# EAGLE library part AD630 (library _RoweTel)
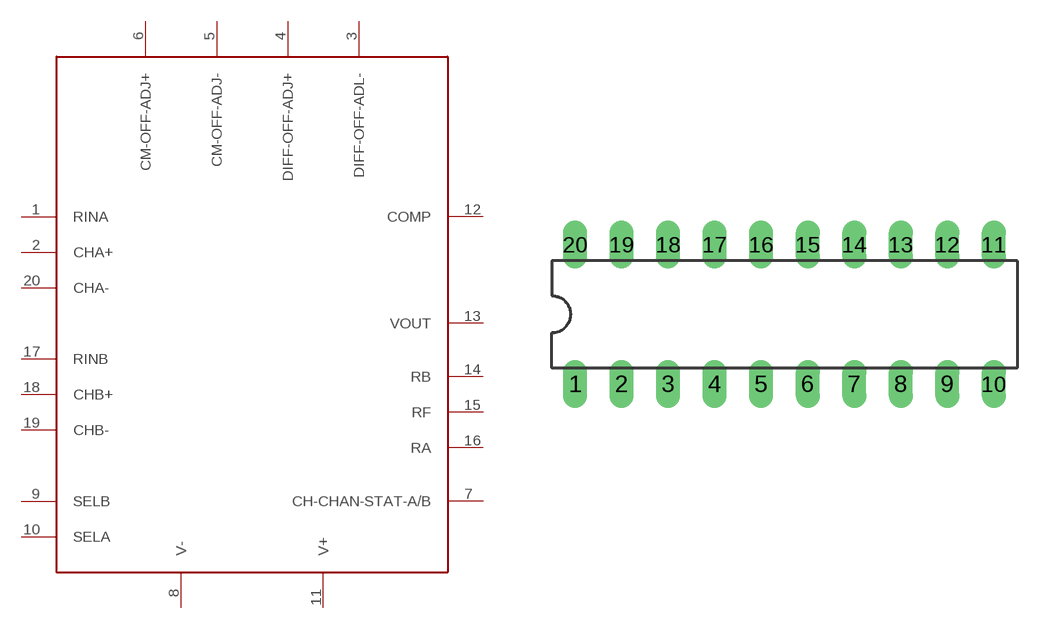
[diagram p4: symbol with the pads of DIL20; footprint DIL20]

Designator prefix U

## AD630  [DIL20]
1  RINA
2  CHA+
3  DIFF-OFF-ADL-
4  DIFF-OFF-ADJ+
5  CM-OFF-ADJ-
6  CM-OFF-ADJ+
7  CH-CHAN-STAT-A/B
8  V-
9  SELB
10  SELA
11  V+
12  COMP
13  VOUT
14  RB
15  RF
16  RA
17  RINB
18  CHB+
19  CHB-
20  CHA-

## Footprint DIL20 (pad centres in mm)
Dual In Line Package
drill 0.813 long: 1 -11.43,-3.81; 2 -8.89,-3.81; 3 -6.35,-3.81; 4 -3.81,-3.81; 5 -1.27,-3.81; 6 1.27,-3.81; 7 3.81,-3.81; 8 6.35,-3.81; 9 8.89,-3.81; 10 11.43,-3.81; 11 11.43,3.81; 12 8.89,3.81; 13 6.35,3.81; 14 3.81,3.81; 15 1.27,3.81; 16 -1.27,3.81; 17 -3.81,3.81; 18 -6.35,3.81; 19 -8.89,3.81; 20 -11.43,3.81